# Altium schematic symbol library FUDs_and_Other_Components.SchLib: 4 symbols
Pins are listed as number, name and electrical type; pins without a type are passive.

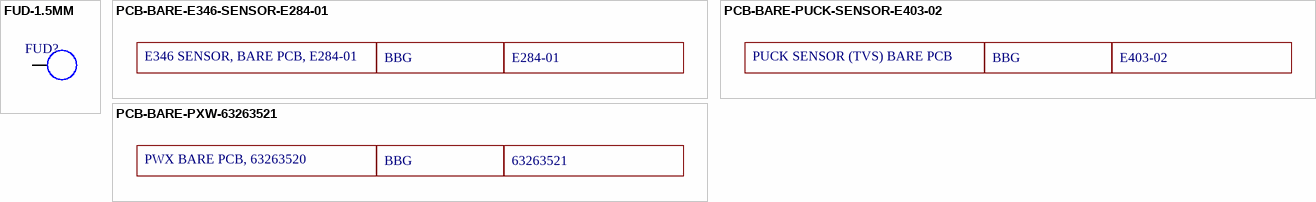
[diagram p0: symbols FUD-1.5MM to PCB-BARE-PXW-63263521]

## FUD-1.5MM
designator FUD?
Fudical, 1.5,mm; Value: FUD,1.5mm
footprint FUD-1.5MM (Fiducial, 1mm Diameter)
pins: 1

## PCB-BARE-E346-SENSOR-E284-01
designator PCB?  value E346 SENSOR, BARE PCB, E284-01  MFG: BBG  MFGPN: E284-01  (hidden comment: PCB-BARE-E346-SENSOR-E284-01)  (mechanical)
E346 Sensor, Raw PCB (no components)

## PCB-BARE-PUCK-SENSOR-E403-02
designator PCB?, comment value PUCK SENSOR (TVS) BARE PCB  MFG: BBG  MFGPN: E403-02  (hidden comment: PCB-BARE-PUCK-SENSOR-E403-02PCB-BARE-E346-SENSOR-E284-01)  (mechanical)
Puck Sensor w/ TVS, Raw PCB (no components)

## PCB-BARE-PXW-63263521
designator N?  value PWX BARE PCB, 63263520  MFG: BBG  MFGPN: 63263521  (hidden comment: PCB-BARE-PXW-63263521)  (mechanical)
PxW Raw PCB (no components)